# Altium schematic symbol library MSP430.SchLib: 2 symbols
Pins are listed as number, name and electrical type; pins without a type are passive.

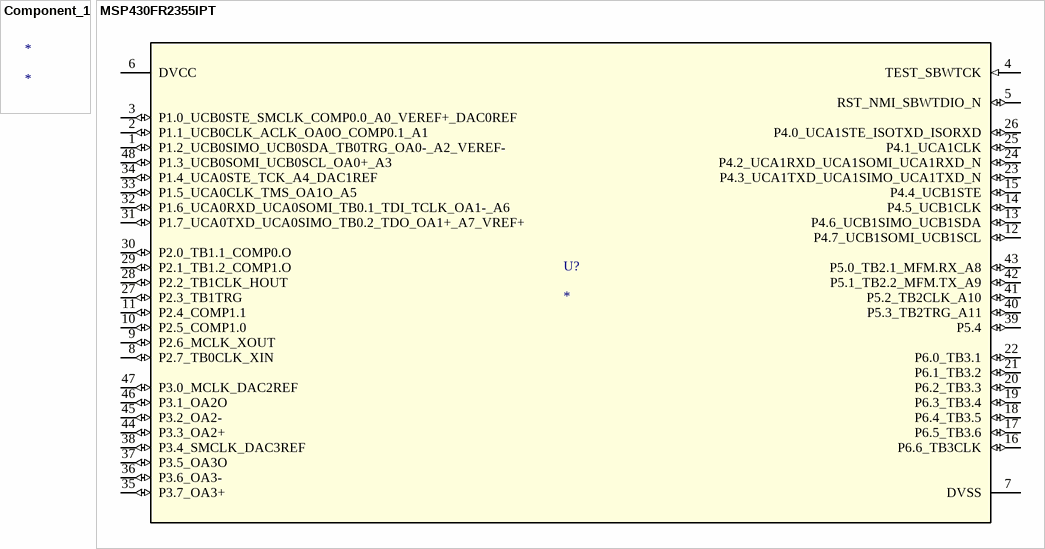
[diagram p0: symbols Component_1 to MSP430FR2355IPT]

## Component_1
designator *

## MSP430FR2355IPT
designator U?
Imported; PartNumber: MSP430FR2355IPT; Manufacturer: Texas Instruments; RefDes: RefDes; TYPE: TYPE; Value: Value
footprint PT0048A_N
pins: 1 P1.2_UCB0SIMO_UCB0SDA_TB0TRG_OA0-_A2_VEREF- (io), 2 P1.1_UCB0CLK_ACLK_OA0O_COMP0.1_A1 (io), 3 P1.0_UCB0STE_SMCLK_COMP0.0_A0_VEREF+_DAC0REF (io), 4 TEST_SBWTCK (in), 5 RST_NMI_SBWTDIO_N (io), 6 DVCC (power), 7 DVSS (power), 8 P2.7_TB0CLK_XIN (io), 9 P2.6_MCLK_XOUT (io), 10 P2.5_COMP1.0 (io), 11 P2.4_COMP1.1 (io), 12 P4.7_UCB1SOMI_UCB1SCL (io), 13 P4.6_UCB1SIMO_UCB1SDA (io), 14 P4.5_UCB1CLK (io), 15 P4.4_UCB1STE (io), 16 P6.6_TB3CLK (io), 17 P6.5_TB3.6 (io), 18 P6.4_TB3.5 (io), 19 P6.3_TB3.4 (io), 20 P6.2_TB3.3 (io), 21 P6.1_TB3.2 (io), 22 P6.0_TB3.1 (io), 23 P4.3_UCA1TXD_UCA1SIMO_UCA1TXD_N (io), 24 P4.2_UCA1RXD_UCA1SOMI_UCA1RXD_N (io), 25 P4.1_UCA1CLK (io), 26 P4.0_UCA1STE_ISOTXD_ISORXD (io), 27 P2.3_TB1TRG (io), 28 P2.2_TB1CLK_HOUT (io), 29 P2.1_TB1.2_COMP1.O (io), 30 P2.0_TB1.1_COMP0.O (io), 31 P1.7_UCA0TXD_UCA0SIMO_TB0.2_TDO_OA1+_A7_VREF+ (io), 32 P1.6_UCA0RXD_UCA0SOMI_TB0.1_TDI_TCLK_OA1-_A6 (io), 33 P1.5_UCA0CLK_TMS_OA1O_A5 (io), 34 P1.4_UCA0STE_TCK_A4_DAC1REF (io), 35 P3.7_OA3+ (io), 36 P3.6_OA3- (io), 37 P3.5_OA3O (io), 38 P3.4_SMCLK_DAC3REF (io), 39 P5.4 (io), 40 P5.3_TB2TRG_A11 (io), 41 P5.2_TB2CLK_A10 (io), 42 P5.1_TB2.2_MFM.TX_A9 (io), 43 P5.0_TB2.1_MFM.RX_A8 (io), 44 P3.3_OA2+ (io), 45 P3.2_OA2- (io), 46 P3.1_OA2O (io), 47 P3.0_MCLK_DAC2REF (io), 48 P1.3_UCB0SOMI_UCB0SCL_OA0+_A3 (io)